# Altium schematic symbol library AZ1117CH-3.3TRG1.SchLib: 1 symbol
Pins are listed as number, name and electrical type; pins without a type are passive.

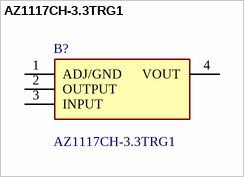
[diagram p0: symbol AZ1117CH-3.3TRG1]

## AZ1117CH-3.3TRG1
designator B?
1.35A 3.3V LDO Reg. Current Limit SOT223 DiodesZetex AZ1117CH-3.3TRG1, LDO Voltage Regulator, 0.8A, 3.3 V +/-1%, maximum of 15 Vin, 3-Pin SOT-223; Manufacturer_Name: Diodes Incorporated; Geometry.Height: 1.8mm; Farnell Part Number: *; Farnell Price/Stock: *; Manufacturer_Part_Number: AZ1117CH-3.3TRG1; Datasheet Link: https://www.diodes.com//assets/Datasheets/AZ1117C.pdf
footprint SOT230P700X180-4N
pins: 1 ADJ/GND, 2 OUTPUT, 3 INPUT, 4 VOUT